# Altium schematic symbol library 74lvc1g126dbvre4.SchLib: 1 symbol
Pins are listed as number, name and electrical type; pins without a type are passive.

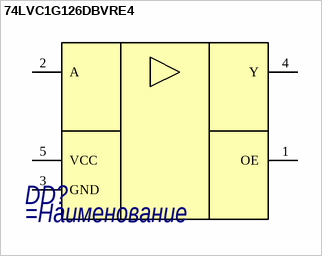
[diagram p0: symbol 74LVC1G126DBVRE4]

## 74LVC1G126DBVRE4
designator DD?
=Описание
pins: 1 OE, 2 A, 3 GND, 4 Y, 5 VCC